# EAGLE library part STECKER_ISP_6 (library robo_ag)
Wannenstecker Reichelt:WSL 6G 2x3 THT
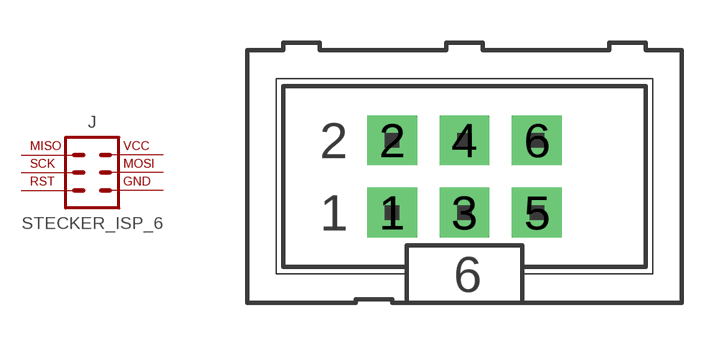
[diagram p18: symbol with the pads of STECKER_WANNE_6; footprint STECKER_WANNE_6]

Designator prefix J

## STECKER_ISP_6  [STECKER_WANNE_6]
1  1_MISO  pas
2  2_VCC  pas
3  3_SCK  pas
4  4_MOSI  pas
5  5_RST  pas
6  6_GND  pas

## Footprint STECKER_WANNE_6 (pad centres in mm)
Wannenstecker [reichelt.de] "WSL 6G"
drill 1 pad 1.75 square: 1 -2.54,-1.27; 2 -2.54,1.27; 3 0,-1.27; 4 0,1.27; 5 2.54,-1.27; 6 2.54,1.27